# Altium integrated library Analog Devices Data Converters Analog-to-Digital Converters.IntLib: 2400 symbols (part 338 of 338)
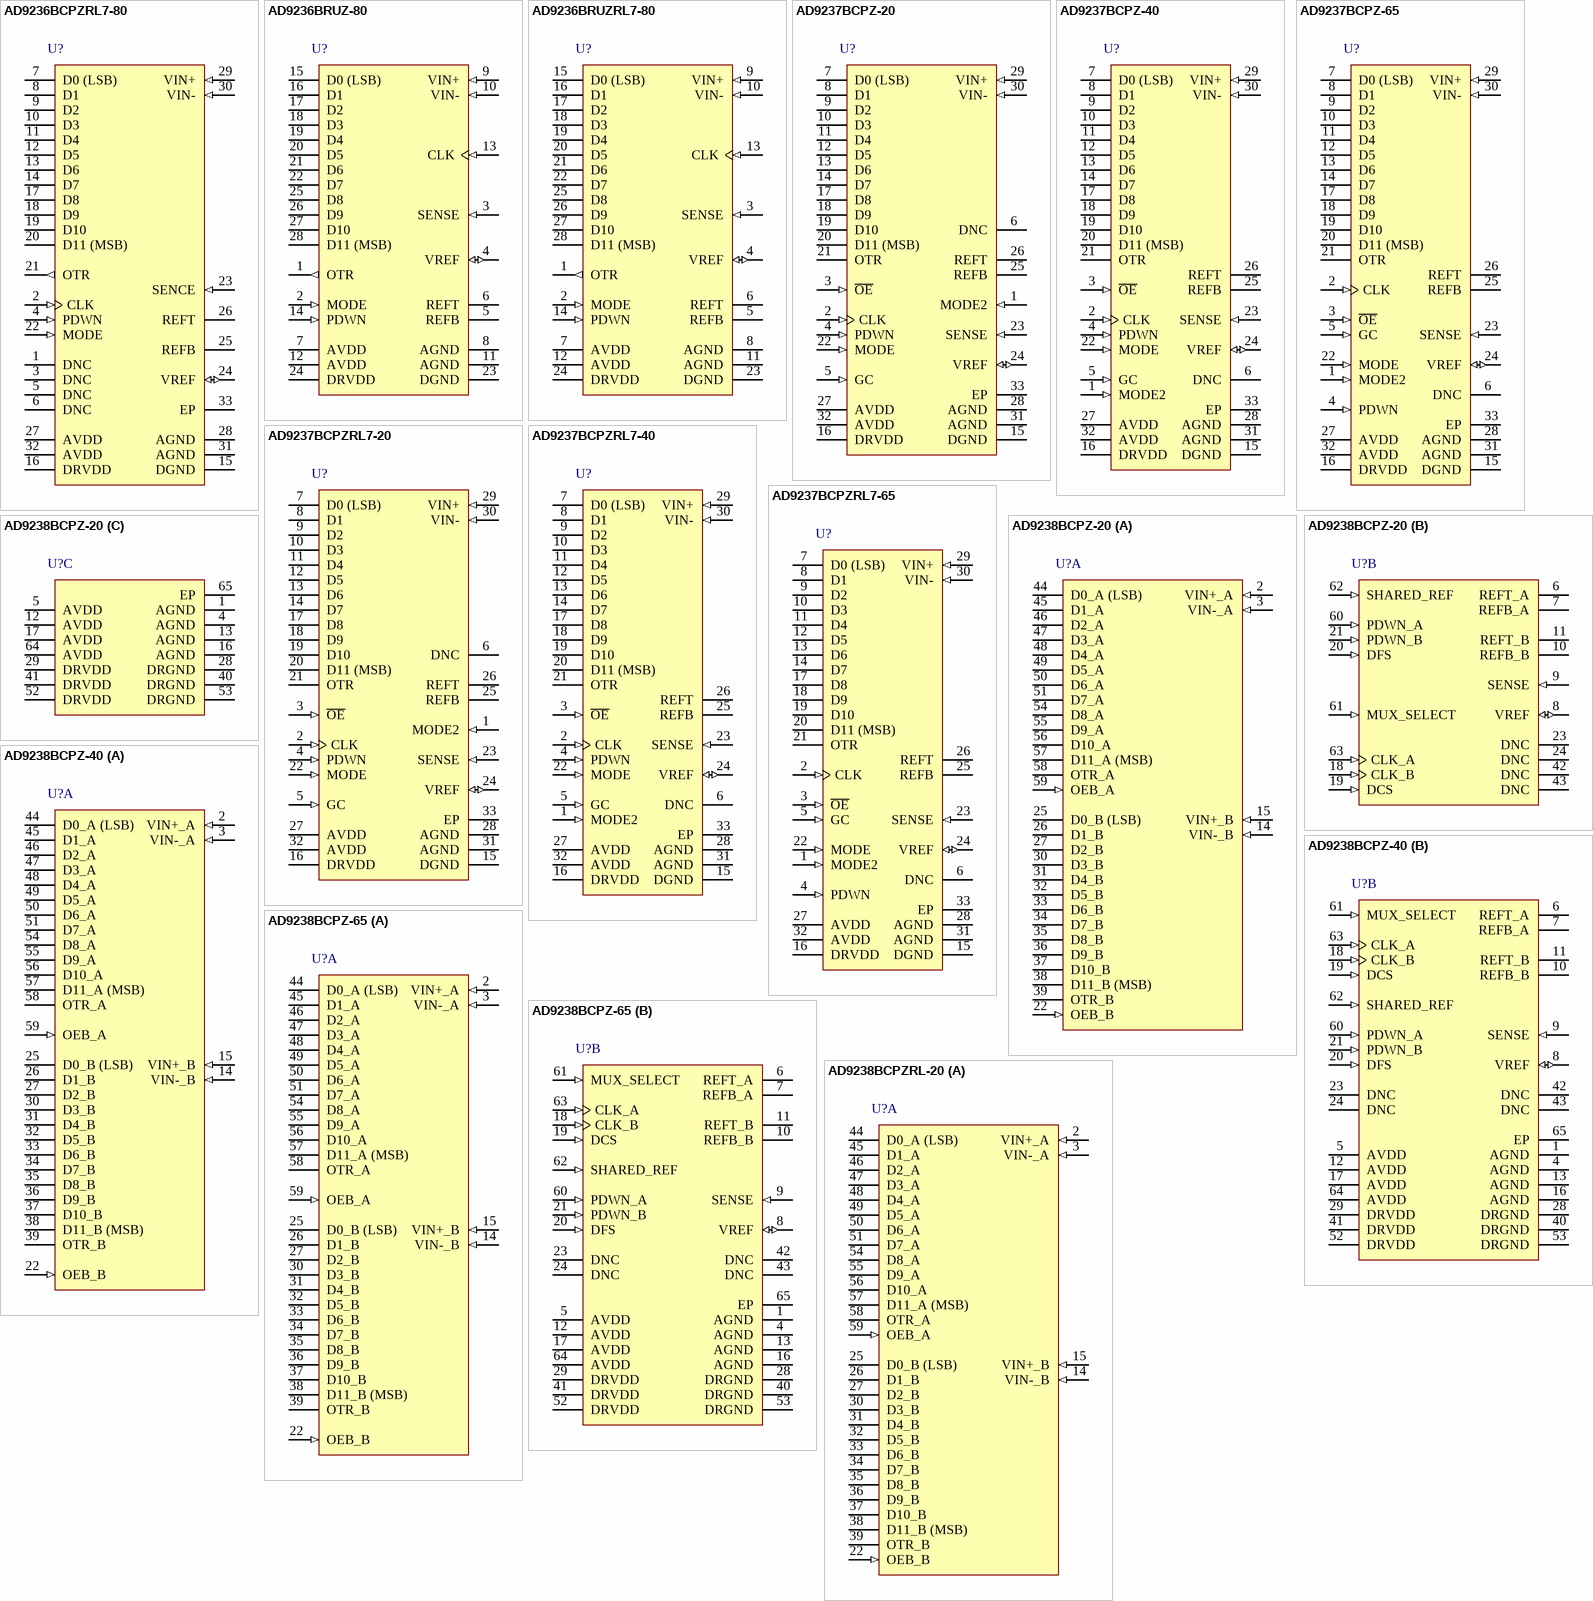
[diagram p438: symbols AD9236BCPZRL7-80 to AD9238BCPZRL-20]

## AD9236BRUZRL7-80
designator U?
Single 12-Bit Analog-to-Digital Converter with Parallel Interface, 80MSPS, -40 to +85 degC, RU-28, Pb-Free, Reel; Part Number: AD9236; Manufacturer: Analog Devices; Resolution (Bits): 12; Channels: 1; Throughput Rate (SPS): 80M; Interface: Par; DatasheetVersion: Rev.B; PackageVersion: 2005; PackageReference: RU-28; PackageDescription: 28-Lead Thin Shrink Small Outline Package [TSSOP]; RoHS: Y; Packing: Reel; Mounting Technology: Surface Mount; Code_JEDEC: MO-153-AE; ComponentLink1Description: Manufacturer URL; ComponentLink1URL: http://www.analog.com/en/index.html; ComponentLink2Description: Datasheet; ComponentLink2URL: http://www.analog.com/static/imported-files/data_sheets/AD9236.pdf; ComponentLink3Description: Package Specification; ComponentLink3URL: http://www.analog.com/static/imported-files/packages/249854663RU_28.pdf; ComponentLink4Description: Product URL; ComponentLink4URL: http://www.analog.com/en/analog-to-digital-converters/ad-converters/ad9236/products/product.html
footprint RU-28_N (TSOP, 28-Leads, Body 9.7x4.4mm, Pitch 0.65mm, IPC Medium Density)
footprint RU-28_L (TSOP, 28-Leads, Body 9.7x4.4mm, Pitch 0.65mm, IPC High Density)
footprint RU-28_M (TSOP, 28-Leads, Body 9.7x4.4mm, Pitch 0.65mm, IPC Low Density)
pins: 1 OTR (out) "Out-of-Range Indicator", 2 MODE (in) "Data Format Select and DCS Mode Selection", 3 SENSE (in) "Reference Mode Selection", 4 VREF (io) "Voltage Reference Input/Output", 5 REFB "Differential Reference (-)", 6 REFT "Differential Reference (+)", 7 AVDD (power) "Analog Power Supply", 8 AGND (power) "Analog Ground", 9 VIN+ (in) "Analog Input Pin (+)", 10 VIN- (in) "Analog Input Pin (-)", 11 AGND (power) "Analog Ground", 12 AVDD (power) "Analog Power Supply", 13 CLK (in) "Clock Input Pin", 14 PDWN (in) "Power-Down Function Select", 15 D0 (LSB) (hiz) "Data Output Bits", 16 D1 (hiz) "Data Output Bits", 17 D2 (hiz) "Data Output Bits", 18 D3 (hiz) "Data Output Bits", 19 D4 (hiz) "Data Output Bits", 20 D5 (hiz) "Data Output Bits", 21 D6 (hiz) "Data Output Bits", 22 D7 (hiz) "Data Output Bits", 23 DGND (power) "Digital Output Ground", 24 DRVDD (power) "Digital Output Driver Supply", 25 D8 (hiz) "Data Output Bits", 26 D9 (hiz) "Data Output Bits", 27 D10 (hiz) "Data Output Bits", 28 D11 (MSB) (hiz) "Data Output Bits"

## AD9237BCPZ-20
designator U?
Single 12-Bit Low Power Analog-to-Digital Converter with Parallel Interface, 20MSPS, 0 to +70 degC, CP-32-2, Pb-Free, Tray; Part Number: AD9237-20; Manufacturer: Analog Devices; Resolution (Bits): 12; Channels: 1; Throughput Rate (SPS): 20M; Interface: Par; DatasheetVersion: Rev.A; PackageVersion: Jan-2005; PackageReference: CP-32-2; PackageDescription: 32-Lead Lead Frame Chip Scale Package [LFCSP_VQ] 5 x 5 mm Body, Very Thin Quad; RoHS: Y; Packing: Tray; Mounting Technology: Surface Mount; Code_JEDEC: MO-220-VHHD-2; ComponentLink1Description: Manufacturer URL; ComponentLink1URL: http://www.analog.com/en/index.html; ComponentLink2Description: Datasheet; ComponentLink2URL: http://www.analog.com/static/imported-files/data_sheets/AD9237.pdf; ComponentLink3Description: Package Specification; ComponentLink3URL: http://www.analog.com/static/imported-files/packages/414143737956480539664569CP_32_2.pdf; ComponentLink4Description: Product URL; ComponentLink4URL: http://www.analog.com/en/analog-to-digital-converters/ad-converters/ad9237/products/product.html
footprint CP-32-2_N (QFN, 32-Leads, Body 5x5mm, Pitch 0.5mm, Thermal Pad 3.1x3.1mm, IPC Medium Density)
footprint CP-32-2_L (QFN, 32-Leads, Body 5x5mm, Pitch 0.5mm, Thermal Pad 3.1x3.1mm, IPC High Density)
footprint CP-32-2_M (QFN, 32-Leads, Body 5x5mm, Pitch 0.5mm, Thermal Pad 3.1x3.1mm, IPC Low Density)
pins: 1 MODE2 (in) "SHA Gain Select and Power Scaling Control (see Table 8).", 2 CLK (in) "Clock Input Pin.", 3 ~{OE} (in) "Output Enable Pin (Active Low).", 4 PDWN (in) "Power-Down Function Selection (see Table 9).", 5 GC (in) "Gray Code Control (Active High).", 6 DNC "Do Not Connect.", 7 D0 (LSB) (hiz) "Data Output Bits.", 8 D1 (hiz) "Data Output Bits.", 9 D2 (hiz) "Data Output Bits.", 10 D3 (hiz) "Data Output Bits.", 11 D4 (hiz) "Data Output Bits.", 12 D5 (hiz) "Data Output Bits.", 13 D6 (hiz) "Data Output Bits.", 14 D7 (hiz) "Data Output Bits.", 15 DGND (power) "Digital Output Ground.", 16 DRVDD (power) "Digital Output Driver Supply. Must be decoupled to DGND with a minimum 0.1 uF capacitor. Recommended decoupling is 0.1 uF in parallel with 10 uF.", 17 D8 (hiz) "Data Output Bits.", 18 D9 (hiz) "Data Output Bits.", 19 D10 (hiz) "Data Output Bits.", 20 D11 (MSB) (hiz) "Data Output Bits.", 21 OTR (hiz) "Out-of-Range Indicator.", 22 MODE (in) "Data Format and Clock Duty Cycle Stabilizer (DCS) Mode Selection (see Table 10).", 23 SENSE (in) "Reference Mode Selection (see Table 7).", 24 VREF (io) "Voltage Reference Input/Output (see Table 7).", 25 REFB "Differential Reference (-). Must be decoupled to REFT with a minimum 10 uF capacitor.", 26 REFT "Differential Reference (+).", 27 AVDD (power) "Analog Power Supply. Must be decoupled to AGND with a minimum 0.1 uF capacitor. Recommended decoupling is 0.1 uF in parallel with 10 uF.", 28 AGND (power) "Analog Ground.", 29 VIN+ (in) "Analog Input Pin (+).", 30 VIN- (in) "Analog Input Pin (-).", 31 AGND (power) "Analog Ground.", 32 AVDD (power) "Analog Power Supply. Must be decoupled to AGND with a minimum 0.1 uF capacitor. Recommended decoupling is 0.1 uF in parallel with 10 uF.", 33 EP (power) "It is recommended that the exposed paddle be soldered to the ground plane. There is an increased reliability of the solder joints and maximum thermal capability of the package is achieved with exposed paddle soldered to the (See Datasheet)"

## AD9237BCPZ-40
designator U?
Single 12-Bit Low Power Analog-to-Digital Converter with Parallel Interface, 40MSPS, 0 to +70 degC, CP-32-2, Pb-Free, Tray; Part Number: AD9237-40; Manufacturer: Analog Devices; Resolution (Bits): 12; Channels: 1; Throughput Rate (SPS): 40M; Interface: Par; DatasheetVersion: Rev.A; PackageVersion: Jan-2005; PackageReference: CP-32-2; PackageDescription: 32-Lead Lead Frame Chip Scale Package [LFCSP_VQ] 5 x 5 mm Body, Very Thin Quad; RoHS: Y; Packing: Tray; Mounting Technology: Surface Mount; Code_JEDEC: MO-220-VHHD-2; ComponentLink1Description: Manufacturer URL; ComponentLink1URL: http://www.analog.com/en/index.html; ComponentLink2Description: Datasheet; ComponentLink2URL: http://www.analog.com/static/imported-files/data_sheets/AD9237.pdf; ComponentLink3Description: Package Specification; ComponentLink3URL: http://www.analog.com/static/imported-files/packages/414143737956480539664569CP_32_2.pdf; ComponentLink4Description: Product URL; ComponentLink4URL: http://www.analog.com/en/analog-to-digital-converters/ad-converters/ad9237/products/product.html
footprint CP-32-2_N (QFN, 32-Leads, Body 5x5mm, Pitch 0.5mm, Thermal Pad 3.1x3.1mm, IPC Medium Density)
footprint CP-32-2_L (QFN, 32-Leads, Body 5x5mm, Pitch 0.5mm, Thermal Pad 3.1x3.1mm, IPC High Density)
footprint CP-32-2_M (QFN, 32-Leads, Body 5x5mm, Pitch 0.5mm, Thermal Pad 3.1x3.1mm, IPC Low Density)
pins: 1 MODE2 (in) "SHA Gain Select and Power Scaling Control (see Table 8).", 2 CLK (in) "Clock Input Pin.", 3 ~{OE} (in) "Output Enable Pin (Active Low).", 4 PDWN (in) "Power-Down Function Selection (see Table 9).", 5 GC (in) "Gray Code Control (Active High).", 6 DNC "Do Not Connect.", 7 D0 (LSB) (hiz) "Data Output Bits.", 8 D1 (hiz) "Data Output Bits.", 9 D2 (hiz) "Data Output Bits.", 10 D3 (hiz) "Data Output Bits.", 11 D4 (hiz) "Data Output Bits.", 12 D5 (hiz) "Data Output Bits.", 13 D6 (hiz) "Data Output Bits.", 14 D7 (hiz) "Data Output Bits.", 15 DGND (power) "Digital Output Ground.", 16 DRVDD (power) "Digital Output Driver Supply. Must be decoupled to DGND with a minimum 0.1 uF capacitor. Recommended decoupling is 0.1 uF in parallel with 10 uF.", 17 D8 (hiz) "Data Output Bits.", 18 D9 (hiz) "Data Output Bits.", 19 D10 (hiz) "Data Output Bits.", 20 D11 (MSB) (hiz) "Data Output Bits.", 21 OTR (hiz) "Out-of-Range Indicator.", 22 MODE (in) "Data Format and Clock Duty Cycle Stabilizer (DCS) Mode Selection (see Table 10).", 23 SENSE (in) "Reference Mode Selection (see Table 7).", 24 VREF (io) "Voltage Reference Input/Output (see Table 7).", 25 REFB "Differential Reference (-). Must be decoupled to REFT with a minimum 10 uF capacitor.", 26 REFT "Differential Reference (+).", 27 AVDD (power) "Analog Power Supply. Must be decoupled to AGND with a minimum 0.1 uF capacitor. Recommended decoupling is 0.1 uF in parallel with 10 uF.", 28 AGND (power) "Analog Ground.", 29 VIN+ (in) "Analog Input Pin (+).", 30 VIN- (in) "Analog Input Pin (-).", 31 AGND (power) "Analog Ground.", 32 AVDD (power) "Analog Power Supply. Must be decoupled to AGND with a minimum 0.1 uF capacitor. Recommended decoupling is 0.1 uF in parallel with 10 uF.", 33 EP (power) "It is recommended that the exposed paddle be soldered to the ground plane. There is an increased reliability of the solder joints and maximum thermal capability of the package is achieved with exposed paddle soldered to the (See Datasheet)"

## AD9237BCPZ-65
designator U?
Single 12-Bit Low Power Analog-to-Digital Converter with Parallel Interface, 65MSPS, -40 to +85 degC, CP-32-2, Pb-Free, Tray; Part Number: AD9237-65; Manufacturer: Analog Devices; Resolution (Bits): 12; Channels: 1; Throughput Rate (SPS): 65M; Interface: Par; DatasheetVersion: Rev.A; PackageVersion: Jan-2005; PackageReference: CP-32-2; PackageDescription: 32-Lead Lead Frame Chip Scale Package [LFCSP_VQ] 5 x 5 mm Body, Very Thin Quad; RoHS: Y; Packing: Tray; Mounting Technology: Surface Mount; Code_JEDEC: MO-220-VHHD-2; ComponentLink1Description: Manufacturer URL; ComponentLink1URL: http://www.analog.com/en/index.html; ComponentLink2Description: Datasheet; ComponentLink2URL: http://www.analog.com/static/imported-files/data_sheets/AD9237.pdf; ComponentLink3Description: Package Specification; ComponentLink3URL: http://www.analog.com/static/imported-files/packages/414143737956480539664569CP_32_2.pdf; ComponentLink4Description: Product URL; ComponentLink4URL: http://www.analog.com/en/analog-to-digital-converters/ad-converters/ad9237/products/product.html
footprint CP-32-2_N (QFN, 32-Leads, Body 5x5mm, Pitch 0.5mm, Thermal Pad 3.1x3.1mm, IPC Medium Density)
footprint CP-32-2_L (QFN, 32-Leads, Body 5x5mm, Pitch 0.5mm, Thermal Pad 3.1x3.1mm, IPC High Density)
footprint CP-32-2_M (QFN, 32-Leads, Body 5x5mm, Pitch 0.5mm, Thermal Pad 3.1x3.1mm, IPC Low Density)
pins: 1 MODE2 (in) "SHA Gain Select and Power Scaling Control (see Table 8).", 2 CLK (in) "Clock Input Pin.", 3 ~{OE} (in) "Output Enable Pin (Active Low).", 4 PDWN (in) "Power-Down Function Selection (see Table 9).", 5 GC (in) "Gray Code Control (Active High).", 6 DNC "Do Not Connect.", 7 D0 (LSB) (hiz) "Data Output Bits.", 8 D1 (hiz) "Data Output Bits.", 9 D2 (hiz) "Data Output Bits.", 10 D3 (hiz) "Data Output Bits.", 11 D4 (hiz) "Data Output Bits.", 12 D5 (hiz) "Data Output Bits.", 13 D6 (hiz) "Data Output Bits.", 14 D7 (hiz) "Data Output Bits.", 15 DGND (power) "Digital Output Ground.", 16 DRVDD (power) "Digital Output Driver Supply. Must be decoupled to DGND with a minimum 0.1 uF capacitor. Recommended decoupling is 0.1 uF in parallel with 10 uF.", 17 D8 (hiz) "Data Output Bits.", 18 D9 (hiz) "Data Output Bits.", 19 D10 (hiz) "Data Output Bits.", 20 D11 (MSB) (hiz) "Data Output Bits.", 21 OTR (hiz) "Out-of-Range Indicator.", 22 MODE (in) "Data Format and Clock Duty Cycle Stabilizer (DCS) Mode Selection (see Table 10).", 23 SENSE (in) "Reference Mode Selection (see Table 7).", 24 VREF (io) "Voltage Reference Input/Output (see Table 7).", 25 REFB "Differential Reference (-). Must be decoupled to REFT with a minimum 10 uF capacitor.", 26 REFT "Differential Reference (+).", 27 AVDD (power) "Analog Power Supply. Must be decoupled to AGND with a minimum 0.1 uF capacitor. Recommended decoupling is 0.1 uF in parallel with 10 uF.", 28 AGND (power) "Analog Ground.", 29 VIN+ (in) "Analog Input Pin (+).", 30 VIN- (in) "Analog Input Pin (-).", 31 AGND (power) "Analog Ground.", 32 AVDD (power) "Analog Power Supply. Must be decoupled to AGND with a minimum 0.1 uF capacitor. Recommended decoupling is 0.1 uF in parallel with 10 uF.", 33 EP (power) "It is recommended that the exposed paddle be soldered to the ground plane. There is an increased reliability of the solder joints and maximum thermal capability of the package is achieved with exposed paddle soldered to the (See Datasheet)"

## AD9237BCPZRL7-20
designator U?
Single 12-Bit Low Power Analog-to-Digital Converter with Parallel Interface, 20MSPS, -40 to +85 degC, CP-32-2, Pb-Free, Reel; Part Number: AD9237-20; Manufacturer: Analog Devices; Resolution (Bits): 12; Channels: 1; Throughput Rate (SPS): 20M; Interface: Par; DatasheetVersion: Rev.A; PackageVersion: Jan-2005; PackageReference: CP-32-2; PackageDescription: 32-Lead Lead Frame Chip Scale Package [LFCSP_VQ] 5 x 5 mm Body, Very Thin Quad; RoHS: Y; Packing: Reel; Mounting Technology: Surface Mount; Code_JEDEC: MO-220-VHHD-2; ComponentLink1Description: Manufacturer URL; ComponentLink1URL: http://www.analog.com/en/index.html; ComponentLink2Description: Datasheet; ComponentLink2URL: http://www.analog.com/static/imported-files/data_sheets/AD9237.pdf; ComponentLink3Description: Package Specification; ComponentLink3URL: http://www.analog.com/static/imported-files/packages/414143737956480539664569CP_32_2.pdf; ComponentLink4Description: Product URL; ComponentLink4URL: http://www.analog.com/en/analog-to-digital-converters/ad-converters/ad9237/products/product.html
footprint CP-32-2_N (QFN, 32-Leads, Body 5x5mm, Pitch 0.5mm, Thermal Pad 3.1x3.1mm, IPC Medium Density)
footprint CP-32-2_L (QFN, 32-Leads, Body 5x5mm, Pitch 0.5mm, Thermal Pad 3.1x3.1mm, IPC High Density)
footprint CP-32-2_M (QFN, 32-Leads, Body 5x5mm, Pitch 0.5mm, Thermal Pad 3.1x3.1mm, IPC Low Density)
pins: 1 MODE2 (in) "SHA Gain Select and Power Scaling Control (see Table 8).", 2 CLK (in) "Clock Input Pin.", 3 ~{OE} (in) "Output Enable Pin (Active Low).", 4 PDWN (in) "Power-Down Function Selection (see Table 9).", 5 GC (in) "Gray Code Control (Active High).", 6 DNC "Do Not Connect.", 7 D0 (LSB) (hiz) "Data Output Bits.", 8 D1 (hiz) "Data Output Bits.", 9 D2 (hiz) "Data Output Bits.", 10 D3 (hiz) "Data Output Bits.", 11 D4 (hiz) "Data Output Bits.", 12 D5 (hiz) "Data Output Bits.", 13 D6 (hiz) "Data Output Bits.", 14 D7 (hiz) "Data Output Bits.", 15 DGND (power) "Digital Output Ground.", 16 DRVDD (power) "Digital Output Driver Supply. Must be decoupled to DGND with a minimum 0.1 uF capacitor. Recommended decoupling is 0.1 uF in parallel with 10 uF.", 17 D8 (hiz) "Data Output Bits.", 18 D9 (hiz) "Data Output Bits.", 19 D10 (hiz) "Data Output Bits.", 20 D11 (MSB) (hiz) "Data Output Bits.", 21 OTR (hiz) "Out-of-Range Indicator.", 22 MODE (in) "Data Format and Clock Duty Cycle Stabilizer (DCS) Mode Selection (see Table 10).", 23 SENSE (in) "Reference Mode Selection (see Table 7).", 24 VREF (io) "Voltage Reference Input/Output (see Table 7).", 25 REFB "Differential Reference (-). Must be decoupled to REFT with a minimum 10 uF capacitor.", 26 REFT "Differential Reference (+).", 27 AVDD (power) "Analog Power Supply. Must be decoupled to AGND with a minimum 0.1 uF capacitor. Recommended decoupling is 0.1 uF in parallel with 10 uF.", 28 AGND (power) "Analog Ground.", 29 VIN+ (in) "Analog Input Pin (+).", 30 VIN- (in) "Analog Input Pin (-).", 31 AGND (power) "Analog Ground.", 32 AVDD (power) "Analog Power Supply. Must be decoupled to AGND with a minimum 0.1 uF capacitor. Recommended decoupling is 0.1 uF in parallel with 10 uF.", 33 EP (power) "It is recommended that the exposed paddle be soldered to the ground plane. There is an increased reliability of the solder joints and maximum thermal capability of the package is achieved with exposed paddle soldered to the (See Datasheet)"

## AD9237BCPZRL7-40
designator U?
Single 12-Bit Low Power Analog-to-Digital Converter with Parallel Interface, 40MSPS, -40 to +85 degC, CP-32-2, Pb-Free,Reel; Part Number: AD9237-40; Manufacturer: Analog Devices; Resolution (Bits): 12; Channels: 1; Throughput Rate (SPS): 40M; Interface: Par; DatasheetVersion: Rev.A; PackageVersion: Jan-2005; PackageReference: CP-32-2; PackageDescription: 32-Lead Lead Frame Chip Scale Package [LFCSP_VQ] 5 x 5 mm Body, Very Thin Quad; RoHS: Y; Packing: Reel; Mounting Technology: Surface Mount; Code_JEDEC: MO-220-VHHD-2; ComponentLink1Description: Manufacturer URL; ComponentLink1URL: http://www.analog.com/en/index.html; ComponentLink2Description: Datasheet; ComponentLink2URL: http://www.analog.com/static/imported-files/data_sheets/AD9237.pdf; ComponentLink3Description: Package Specification; ComponentLink3URL: http://www.analog.com/static/imported-files/packages/414143737956480539664569CP_32_2.pdf; ComponentLink4Description: Product URL; ComponentLink4URL: http://www.analog.com/en/analog-to-digital-converters/ad-converters/ad9237/products/product.html
footprint CP-32-2_N (QFN, 32-Leads, Body 5x5mm, Pitch 0.5mm, Thermal Pad 3.1x3.1mm, IPC Medium Density)
footprint CP-32-2_L (QFN, 32-Leads, Body 5x5mm, Pitch 0.5mm, Thermal Pad 3.1x3.1mm, IPC High Density)
footprint CP-32-2_M (QFN, 32-Leads, Body 5x5mm, Pitch 0.5mm, Thermal Pad 3.1x3.1mm, IPC Low Density)
pins: 1 MODE2 (in) "SHA Gain Select and Power Scaling Control (see Table 8).", 2 CLK (in) "Clock Input Pin.", 3 ~{OE} (in) "Output Enable Pin (Active Low).", 4 PDWN (in) "Power-Down Function Selection (see Table 9).", 5 GC (in) "Gray Code Control (Active High).", 6 DNC "Do Not Connect.", 7 D0 (LSB) (hiz) "Data Output Bits.", 8 D1 (hiz) "Data Output Bits.", 9 D2 (hiz) "Data Output Bits.", 10 D3 (hiz) "Data Output Bits.", 11 D4 (hiz) "Data Output Bits.", 12 D5 (hiz) "Data Output Bits.", 13 D6 (hiz) "Data Output Bits.", 14 D7 (hiz) "Data Output Bits.", 15 DGND (power) "Digital Output Ground.", 16 DRVDD (power) "Digital Output Driver Supply. Must be decoupled to DGND with a minimum 0.1 uF capacitor. Recommended decoupling is 0.1 uF in parallel with 10 uF.", 17 D8 (hiz) "Data Output Bits.", 18 D9 (hiz) "Data Output Bits.", 19 D10 (hiz) "Data Output Bits.", 20 D11 (MSB) (hiz) "Data Output Bits.", 21 OTR (hiz) "Out-of-Range Indicator.", 22 MODE (in) "Data Format and Clock Duty Cycle Stabilizer (DCS) Mode Selection (see Table 10).", 23 SENSE (in) "Reference Mode Selection (see Table 7).", 24 VREF (io) "Voltage Reference Input/Output (see Table 7).", 25 REFB "Differential Reference (-). Must be decoupled to REFT with a minimum 10 uF capacitor.", 26 REFT "Differential Reference (+).", 27 AVDD (power) "Analog Power Supply. Must be decoupled to AGND with a minimum 0.1 uF capacitor. Recommended decoupling is 0.1 uF in parallel with 10 uF.", 28 AGND (power) "Analog Ground.", 29 VIN+ (in) "Analog Input Pin (+).", 30 VIN- (in) "Analog Input Pin (-).", 31 AGND (power) "Analog Ground.", 32 AVDD (power) "Analog Power Supply. Must be decoupled to AGND with a minimum 0.1 uF capacitor. Recommended decoupling is 0.1 uF in parallel with 10 uF.", 33 EP (power) "It is recommended that the exposed paddle be soldered to the ground plane. There is an increased reliability of the solder joints and maximum thermal capability of the package is achieved with exposed paddle soldered to the (See Datasheet)"